# Altium footprint library Conn_Molex_532610671_eec_MFG.PcbLib: 1 footprints
Each footprint in its own frame and in the unit in brackets; x right, y up, seen from the top. Pads: shape width x height; smd on the part's side, far side on the other; paste and mask are expansions set on the pad; w line width, h text height; cw(c..) or ccw(c..) is an arc to the next point about the centre after c.
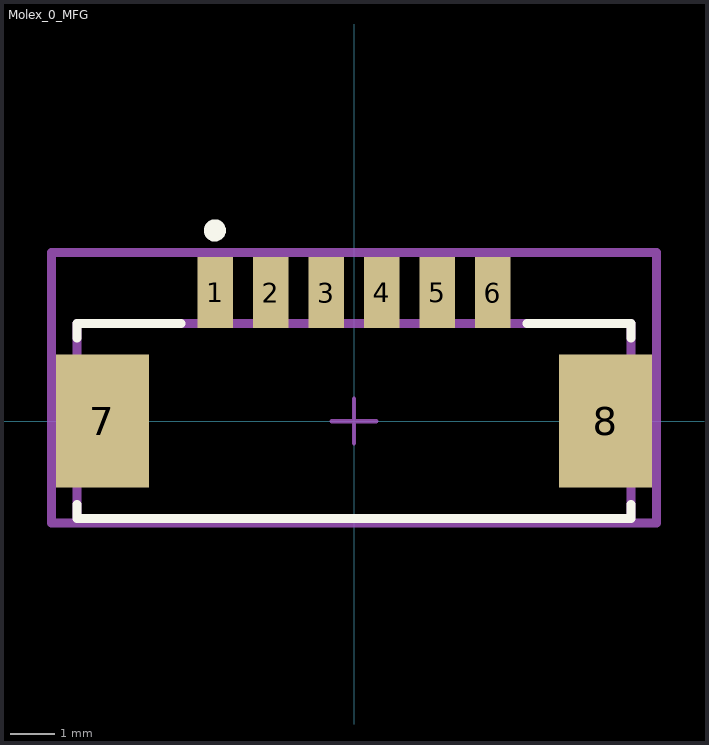
[diagram p0: the footprint, top view; thin cyan lines are the x and y axes]

## Molex_0_MFG [mm]
pads (8):
  rect 0.8x1.6 smd paste+0 mask+0: 1(-3.125,2.9) 2(-1.875,2.9) 3(-0.625,2.9) 4(0.625,2.9) 5(1.875,2.9) 6(3.125,2.9)
  rect 2.1x3 smd paste+0 mask+0: 7(-5.675,0) 8(5.675,0)
Top Overlay:
  circle w0.25: c-3.137,4.3 r0.125
  lines w0.2: -6.25,-1.875 -6.25,-2.2 6.25,-2.2 6.25,-1.875 ; -6.25,1.875 -6.25,2.2 -3.9,2.2 ; 3.9,2.2 6.25,2.2 6.25,1.875
Mechanical 10:
  lines w0.2: -6.825,-2.3 6.825,-2.3 6.825,3.8 -6.825,3.8 -6.825,-2.3
  text ".Designator" at 0,0.75 h1
Mechanical 12:
  lines w0.2: -6.25,-2.2 6.25,-2.2 6.25,2.2 -6.25,2.2 -6.25,-2.2
Mechanical 15:
  lines w0.1: -0.5,0 0.5,0 ; 0,-0.5 0,0.5
  lines w0.2: -6.825,-2.3 6.825,-2.3 6.825,3.8 -6.825,3.8 -6.825,-2.3
3D body "Conn_Molex_532610671_eec.STEP": height 0.25, standoff 0, extent -6.825,-2.3 6.825,3.8